# EAGLE library part IC_MC13135 (library psas)
MC13135, Narrowband, Dual conversion, FM reciever.
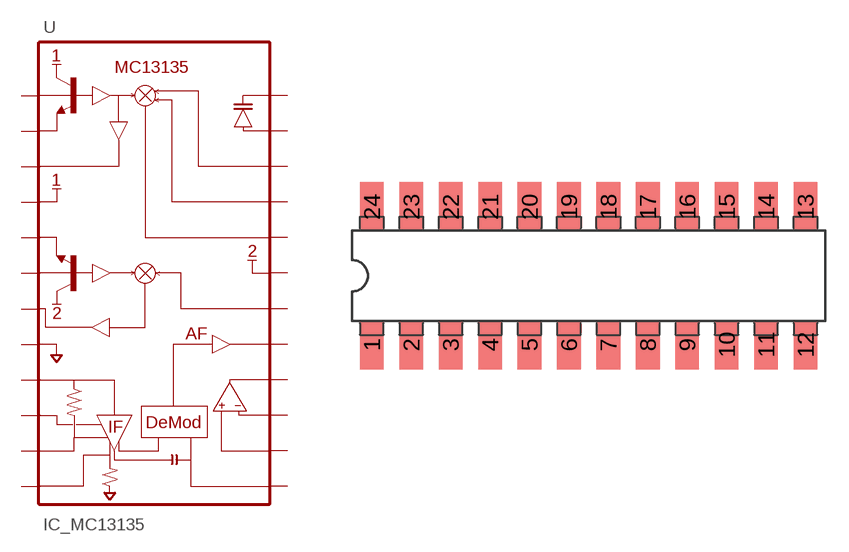
[diagram p29: symbol with the pads of DIL24-SMT; footprint DIL24-SMT]

Designator prefix U

## IC_MC13135  [DIL24-SMT]
1  LO1-B  pas
2  LO1-E  pas
3  LO1-O  pas
4  VCC1  pas
5  LO2-E  pas
6  LO2-B  pas
7  MX2_O  pas
8  VEE  pas
9  IF-IN  pas
10  BYP1  pas
11  BYP2  pas
12  RSSI  pas
13  QUAD_COIL  pas
14  OP+  pas
15  OP-  pas
16  OP-O  pas
17  AFO  pas
18  MX2_I  pas
19  VCC2  pas
20  MX1_O  pas
21  MX1_I2  pas
22  MX1_I1  pas
23  VC-A  pas
24  VC-K  pas

## Footprint DIL24-SMT (pad centres in mm)
Dual in Line 24 pin package. Modified for surface mount.
smd 1.524 x 3.175: 1 -13.97,-4.445; 2 -11.43,-4.445; 3 -8.89,-4.445; 4 -6.35,-4.445; 5 -3.81,-4.445; 6 -1.27,-4.445; 7 1.27,-4.445; 8 3.81,-4.445; 9 6.35,-4.445; 10 8.89,-4.445; 11 11.43,-4.445; 12 13.97,-4.445; 13 13.97,4.445; 14 11.43,4.445; 15 8.89,4.445; 16 6.35,4.445; 17 3.81,4.445; 18 1.27,4.445; 19 -1.27,4.445; 20 -3.81,4.445; 21 -6.35,4.445; 22 -8.89,4.445; 23 -11.43,4.445; 24 -13.97,4.445